# Altium footprint library Cap 1uf.PCBLIB: 3 footprints
Each footprint in its own frame and in the unit in brackets; x right, y up, seen from the top. Pads: shape width x height; smd on the part's side, far side on the other; paste and mask are expansions set on the pad; w line width, h text height; cw(c..) or ccw(c..) is an arc to the next point about the centre after c.
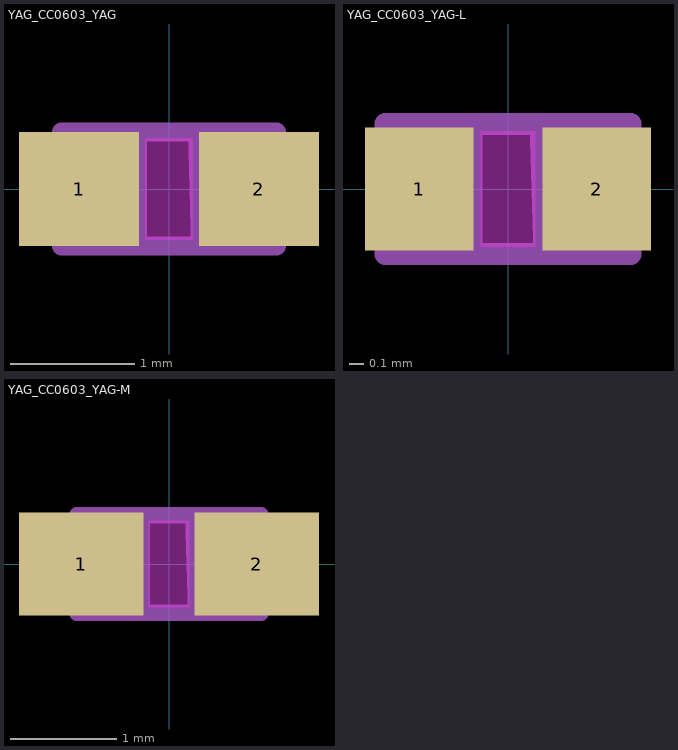
[diagram p0: the footprints below, top view; thin cyan lines are the x and y axes]

## YAG_CC0603_YAG [mil]
pads (2):
  rect 38x36 smd: 1(-28.5,0) 2(28.5,0)
Top keep-out:
  region: -7.5,16 7.5,16 7.5,-16 -7.5,-16
tDocu:
  lines w6: -34,-18 -34,18 ; -34,-18 -10,-18 -10,18 -34,18 ; -34,-18 34,-18 ; -34,-18 -34,18 ; -34,18 34,18 ; 34,-18 10,-18 9,18 34,18 ; 34,-18 34,18 ; 34,-18 34,18

## YAG_CC0603_YAG-L [mil]
pads (2):
  rect 30x34 smd: 1(-24.5,0) 2(24.5,0)
Top keep-out:
  region: -7.5,16 7.5,16 7.5,-16 -7.5,-16
tDocu:
  lines w6: -34,-18 -34,18 ; -34,-18 -10,-18 -10,18 -34,18 ; -34,-18 34,-18 ; -34,-18 -34,18 ; -34,18 34,18 34,-18 ; 34,-18 10,-18 9,18 33,18 34,-18

## YAG_CC0603_YAG-M [mil]
pads (2):
  rect 46x38 smd: 1(-32.5,0) 2(32.5,0)
Top keep-out:
  region: -7.5,16 7.5,16 7.5,-16 -7.5,-16
tDocu:
  lines w6: -34,-18 -34,18 ; -34,-18 -10,-18 -10,18 -34,18 ; -34,-18 34,-18 ; -34,-18 -34,18 ; -34,18 34,18 34,-18 ; 34,-18 10,-18 9,18 33,18 34,-18